# Altium schematic symbol library autoquad-esc32-speed-controller.SchLib: 1 symbol
Pins are listed as number, name and electrical type; pins without a type are passive.

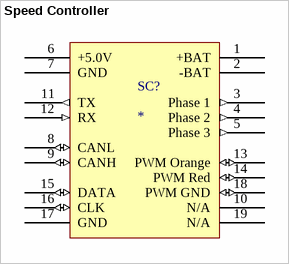
[diagram p0: symbol Speed Controller]

## Speed Controller
designator SC?
Autoquad ESC32 Speed Controller
footprint Autoquad-esc32-speed-controller
pins: 1 +BAT (power), 2 -BAT (power), 3 Phase 1 (out), 4 Phase 2 (out), 5 Phase 3 (out), 6 +5.0V (power), 7 GND (power), 8 CANL (io), 9 CANH (io), 10 N/A, 11 TX (out), 12 RX (in), 13 PWM Orange (io), 14 PWM Red (io), 15 DATA (io), 16 CLK (io), 17 GND (power), 18 PWM GND (io), 19 N/A